# Altium schematic symbol library TP35TH10.Schlib: 1 symbol
Pins are listed as number, name and electrical type; pins without a type are passive.

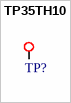
[diagram p0: symbol TP35TH10]

## TP35TH10
designator TP?, comment TESTPOINT  (value not drawn)  (no BOM)
0.035"/0.015" Thru Hole Test Point
pins: 1